# Altium footprint library PcbLib1.PcbLib: 1 footprints
Each footprint in its own frame and in the unit in brackets; x right, y up, seen from the top. Pads: shape width x height; smd on the part's side, far side on the other; paste and mask are expansions set on the pad; w line width, h text height; cw(c..) or ccw(c..) is an arc to the next point about the centre after c.
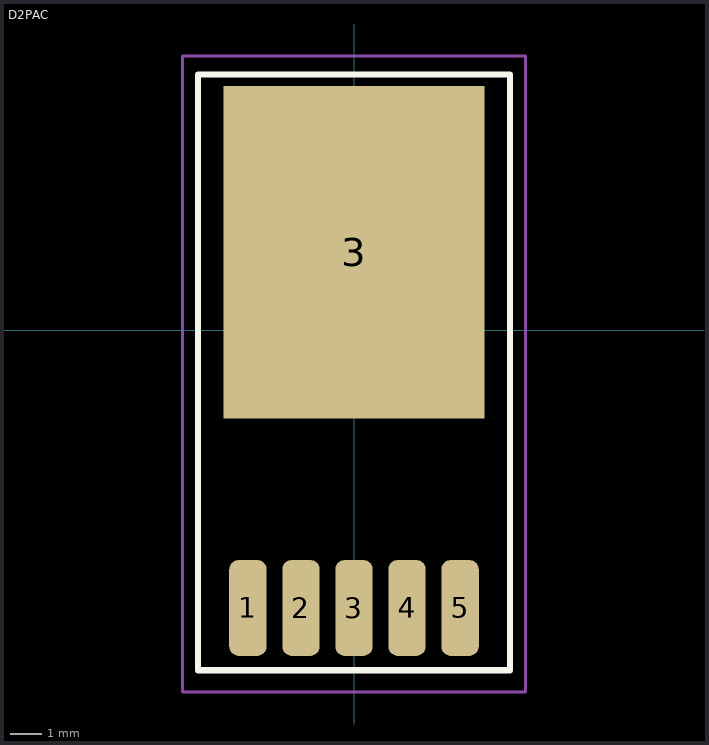
[diagram p0: the footprint, top view; thin cyan lines are the x and y axes]

## D2PAC [mm]
pads (6):
  rrect50% 1.2x3.075 smd: 1(-3.4,-8.9) 2(-1.7,-8.9) 3(0,-8.9) 4(1.7,-8.9) 5(3.4,-8.9)
  rect 8.38x10.66 smd: 3(0,2.5)
Top Overlay:
  lines w0.2: -5,-10.9 5,-10.9 5,-9.5 5,8.2 -5,8.2 -5,-3.6 -5,-10.9
Mechanical 15:
  lines w0.1: -2.1,0 2.1,0 ; 0,-2.2 0,2.2 ; -5.5,-11.6 5.5,-11.6 5.5,8.8 -5.5,8.8 -5.5,2.4 -5.5,-11.6
3D body "TO263-5-1.stp": height 4.22, standoff 0, extent -4.911,-9.561 4.911,5.041